# Altium footprint library TO-252.PcbLib: 1 footprints
Each footprint in its own frame and in the unit in brackets; x right, y up, seen from the top. Pads: shape width x height; smd on the part's side, far side on the other; paste and mask are expansions set on the pad; w line width, h text height; cw(c..) or ccw(c..) is an arc to the next point about the centre after c.
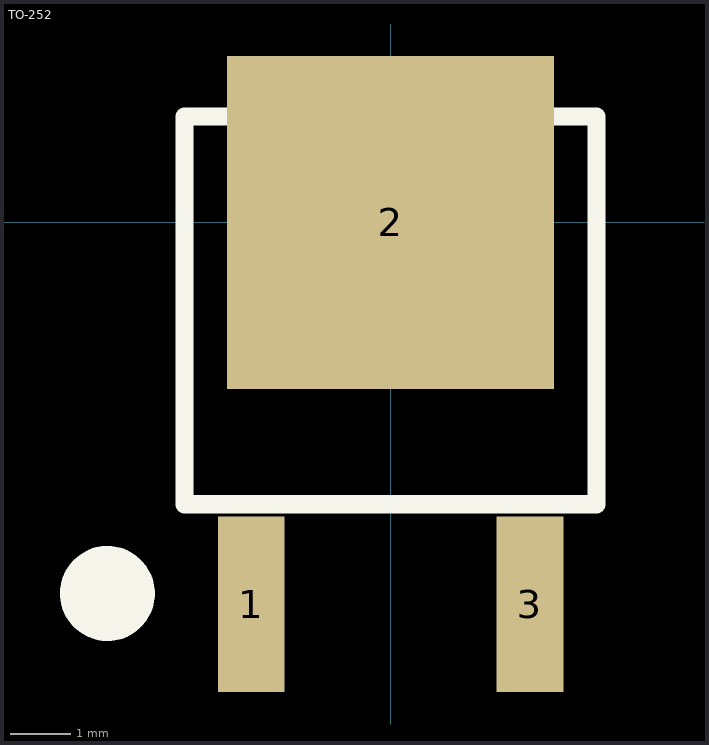
[diagram p0: the footprint, top view; thin cyan lines are the x and y axes]

## TO-252 [mm]
pads (3):
  rect 1.1x2.9 smd: 1(-2.3,-6.3) 3(2.3,-6.3)
  rect 5.4x5.5 smd: 2(0,0)
Top Overlay:
  circle w1: c-4.674,-6.121 r0.284
  lines w0.3: -3.4,-4.65 -3.4,1.75 3.4,1.75 3.4,-4.65 -3.4,-4.65
3D body "TRANS_RD3H045S_ROM.step": height 2.31, standoff -0.05, extent -3.302,-8.128 3.302,2.87